# EAGLE library part SFV8R-1STBE1HLF (library CONNECTORs)
8 Position FFC, FPC Connector Contacts, Bottom 0.020" (0.50mm) Surface Mount, Right Angle
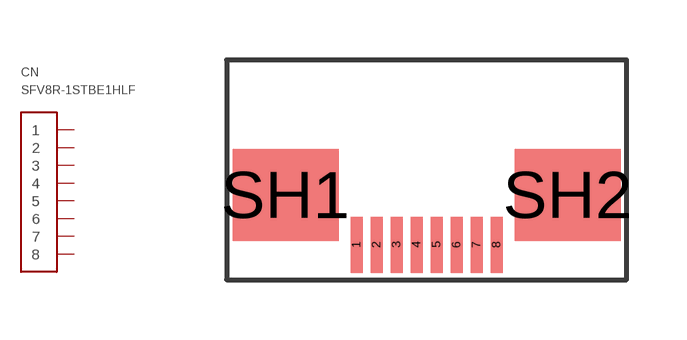
[diagram p69: symbol with the pads of SFV8R-1STBE1HLF; footprint SFV8R-1STBE1HLF]

Designator prefix CN

## SFV8R-1STBE1HLF (DIGIKEY: 609-SFV8R-1STBE1HLFCT-ND; HEIGHT: 1.8; PRICE_PER: 0.29; VALUE: 8 PIN FFC)  [SFV8R-1STBE1HLF]
1  1
2  2
3  3
4  4
5  5
6  6
7  7
8  8

## Footprint SFV8R-1STBE1HLF (pad centres in mm)
smd 0.3 x 1.4: 1 -1.75,-1.875; 2 -1.25,-1.875; 3 -0.75,-1.875; 4 -0.25,-1.875; 5 0.25,-1.875; 6 0.75,-1.875; 7 1.25,-1.875; 8 1.75,-1.875
smd 2.65 x 2.3: SH1 -3.525,-0.625; SH2 3.525,-0.625